# Altium footprint library inductor-coilcraft.PCBLIB: 2 footprints
Each footprint in its own frame and in the unit in brackets; x right, y up, seen from the top. Pads: shape width x height; smd on the part's side, far side on the other; paste and mask are expansions set on the pad; w line width, h text height; cw(c..) or ccw(c..) is an arc to the next point about the centre after c.
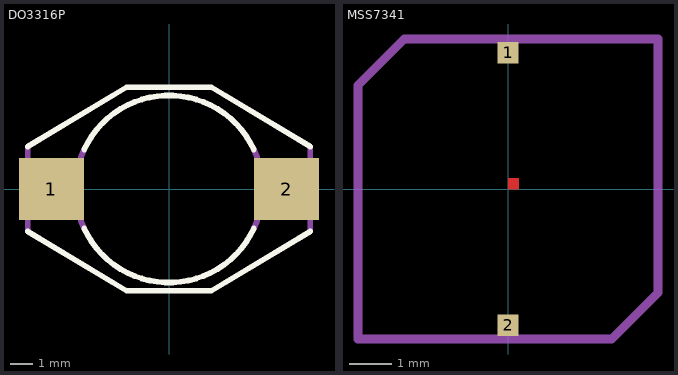
[diagram p0: the footprints below, top view; thin cyan lines are the x and y axes]

## DO3316P [mm]
pads (2):
  rect 2.92x2.79 smd: 1(-5.28,0) 2(5.28,0)
Top Overlay:
  lines w0.254: -6.35,-1.905 -1.905,-4.572 1.905,-4.572 6.35,-1.905 ; -6.35,1.905 -1.905,4.572 1.905,4.572 6.35,1.905 ; -3.81,-1.778 ccw(c0,0) 3.81,-1.778 ; -3.81,1.778 cw(c0,0) 3.81,1.778
Mechanical 16:
  lines w0.254: -6.35,-1.905 -6.35,1.905 ; -3.81,-1.778 cw(c0,0) -3.81,1.778 ; 3.81,-1.778 ccw(c0,0) 3.81,1.778 ; 6.35,-1.905 6.35,1.905

## MSS7341 [mm]
pads (2):
  rect 0.5x0.5 smd: 1(0,3.225) 2(0,-3.225)
Top Layer:
  region: 0,0 0.254,0 0.254,0.254 0,0.254
  region: 0,0 0.254,0 0.254,0.254 0,0.254
Top Paste:
  region: 0,0 0.254,0 0.254,0.254 0,0.254
  region: 0,0 0.254,0 0.254,0.254 0,0.254
Top Solder:
  region: 0,0 0.254,0 0.254,0.254 0,0.254
  region: 0,0 0.254,0 0.254,0.254 0,0.254
Mechanical 16:
  lines w0.203: -3.55,-3.55 -3.55,2.454 -2.454,3.55 3.55,3.55 3.55,-2.454 2.454,-3.55 -3.55,-3.55